# Altium footprint library SX1276_e268v01a.PcbLib: 66 footprints (part 2 of 5)
Each footprint in its own frame and in the unit in brackets; x right, y up, seen from the top. Pads: shape width x height; smd on the part's side, far side on the other; paste and mask are expansions set on the pad; w line width, h text height; cw(c..) or ccw(c..) is an arc to the next point about the centre after c.
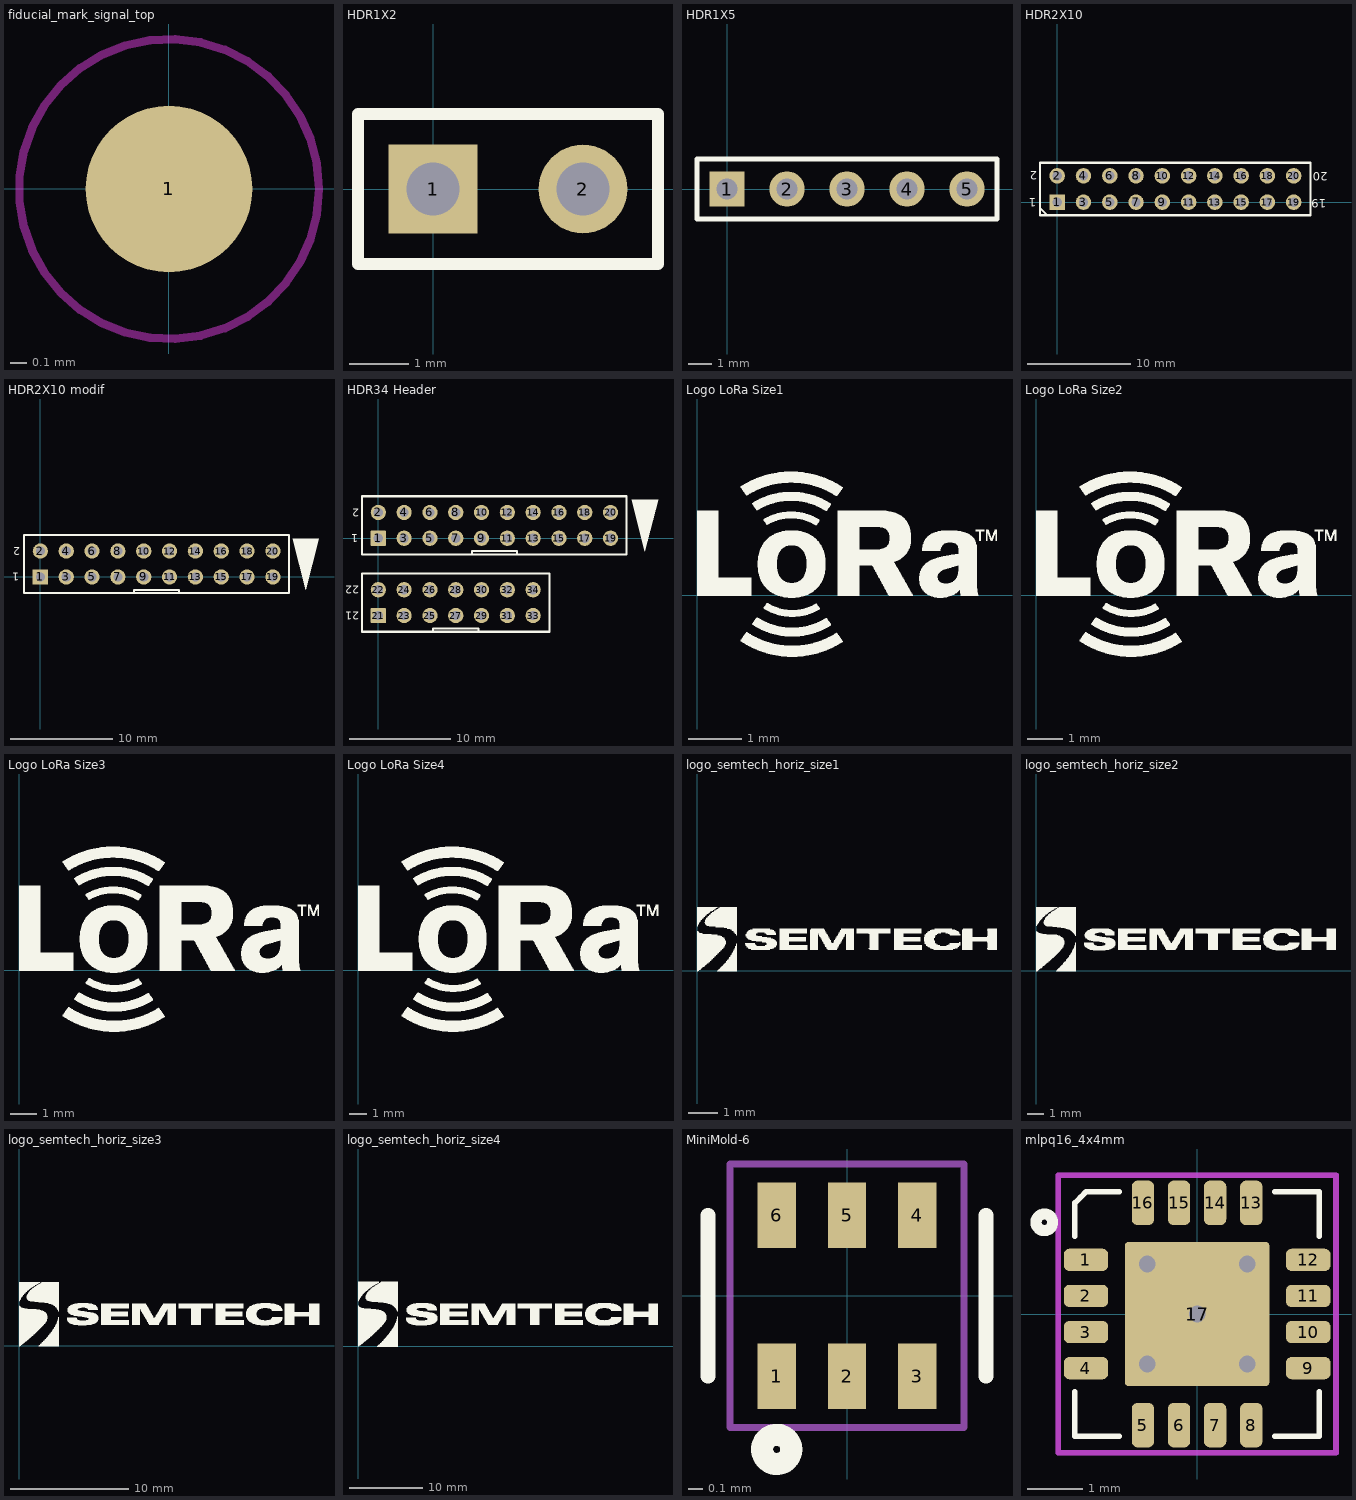
[diagram p1: the footprints below, top view; thin cyan lines are the x and y axes]

## fiducial_mark_signal_top [mm] "Fiducial mark for automatic assembly"
height 1
pads (1):
  round 1 smd paste-2 mask+0.5: 1(0,0)
Top Layer keep-out:
  circle w0.05: c0,0 r0.9

## HDR1X2 [mm] "Connector; Header; 2 Position"
pads (2):
  rect 1.5x1.5 hole 0.9: 1(0,0)
  round 1.5 hole 0.9: 2(2.54,0)
Top Overlay:
  lines w0.2: -1.27,-1.27 3.81,-1.27 3.81,1.27 -1.27,1.27 -1.27,-1.27

## HDR1X5 [mm] "Connector; Header; 5 Position"
pads (5):
  rect 1.5x1.5 hole 0.9: 1(0,0)
  round 1.5 hole 0.9: 2(2.54,0) 3(5.08,0) 4(7.62,0) 5(10.16,0)
Top Overlay:
  lines w0.2: -1.27,-1.27 11.43,-1.27 11.43,1.27 -1.27,1.27 -1.27,-1.27

## HDR2X10 [mm] "Connector; Header; 10x2 Position"
pads (20):
  rect 1.5x1.5 hole 0.9 paste+0 mask+0.1: 1(0,0)
  round 1.5 hole 0.9 paste+0 mask+0.1: 2(0,2.54) 3(2.54,0) 4(2.54,2.54) 5(5.08,0) 6(5.08,2.54) 7(7.62,0) 8(7.62,2.54) 9(10.16,0) 10(10.16,2.54) 11(12.7,0) 12(12.7,2.54) 13(15.24,0) 14(15.24,2.54) 15(17.78,0) 16(17.78,2.54) 17(20.32,0) 18(20.32,2.54) 19(22.86,0) 20(22.86,2.54)
Top Overlay:
  lines w0.2: -1.65,-0.6 -1.015,-1.235 ; -1.65,-1.27 0.635,-1.27 24.5,-1.27 24.5,3.81 0.635,3.81 -1.65,3.81 -1.65,-1.27
  text "20" at 26.15,2.9 h0.8
  text "19" at 26,0.3 h0.8
  text "1" at -2.05,0.4 h0.8
  text "2" at -1.95,3 h0.8

## HDR2X10 modif [mm] "Connector; Header; 10x2 Position - modified"
pads (20):
  rect 1.5x1.5 hole 0.9: 1(0,0)
  round 1.5 hole 0.9: 2(0,2.54) 3(2.54,0) 4(2.54,2.54) 5(5.08,0) 6(5.08,2.54) 7(7.62,0) 8(7.62,2.54) 9(10.16,0) 10(10.16,2.54) 11(12.7,0) 12(12.7,2.54) 13(15.24,0) 14(15.24,2.54) 15(17.78,0) 16(17.78,2.54) 17(20.32,0) 18(20.32,2.54) 19(22.86,0) 20(22.86,2.54)
Top Overlay:
  region: 26.107,-1.275 27.394,3.775 24.82,3.775
  lines w0.2: 9.207,-1.587 9.207,-1.27 13.335,-1.27 13.652,-1.27 13.652,-1.587 ; -1.587,-1.587 24.447,-1.587 24.447,4.127 -1.587,4.127 -1.587,-1.587
  text "2" at -2,2.9 h0.8
  text "1" at -2.1,0.4 h0.8

## HDR34 Header [mm] "Connector; Header; 34 Position - SM12xx Header"
pads (34):
  rrect10% 1.5x1.5 hole 0.9 mask+0.05: 1(0,0) 21(0,-7.62)
  round 1.5 hole 0.9 mask+0.05: 2(0,2.54) 3(2.54,0) 4(2.54,2.54) 5(5.08,0) 6(5.08,2.54) 7(7.62,0) 8(7.62,2.54) 9(10.16,0) 10(10.16,2.54) 11(12.7,0) 12(12.7,2.54) 13(15.24,0) 14(15.24,2.54) 15(17.78,0) 16(17.78,2.54) 17(20.32,0) 18(20.32,2.54) 19(22.86,0) 20(22.86,2.54) 22(0,-5.08) 23(2.54,-7.62) 24(2.54,-5.08) 25(5.08,-7.62) 26(5.08,-5.08) 27(7.62,-7.62) 28(7.62,-5.08) 29(10.16,-7.62) 30(10.16,-5.08) 31(12.7,-7.62) 32(12.7,-5.08) 33(15.24,-7.62) 34(15.24,-5.08)
Top Overlay:
  region: 26.243,-1.275 27.53,3.775 24.956,3.775
  lines w0.2: 5.397,-9.207 5.397,-8.89 9.525,-8.89 9.842,-8.89 9.842,-9.207 ; 9.207,-1.587 9.207,-1.27 13.335,-1.27 13.652,-1.27 13.652,-1.587 ; -1.587,-9.207 -1.587,-3.492 16.828,-3.492 16.828,-9.207 -1.587,-9.207 ; -1.587,-1.587 24.447,-1.587 24.447,4.127 -1.587,4.127 -1.587,-1.587
  text "2" at -1.9,2.9 h0.8
  text "1" at -2,0.4 h0.8
  text "21" at -1.9,-7.25 h0.8
  text "22" at -1.9,-4.7 h0.8

## Logo LoRa Size1 [mm] "Logo LoRa Size1 - Top Overlay"
Top Overlay:
  drawing of 2375 lines, arcs and shapes, not listed

## Logo LoRa Size2 [mm] "Logo LoRa Size2 - Top Overlay"
Top Overlay:
  drawing of 2374 lines, arcs and shapes, not listed

## Logo LoRa Size3 [mm] "Logo LoRa Size3 - Top Overlay"
Top Overlay:
  drawing of 2375 lines, arcs and shapes, not listed

## Logo LoRa Size4 [mm] "Logo LoRa Size4 - Top Overlay"
Top Overlay:
  drawing of 2375 lines, arcs and shapes, not listed

## logo_semtech_horiz_size1 [mm] "Logo semtech horizontal - size1 - S"
Top Overlay:
  drawing of 453 lines, arcs and shapes, not listed

## logo_semtech_horiz_size2 [mm] "Logo semtech horizontal - size2 - M"
Top Overlay:
  drawing of 790 lines, arcs and shapes, not listed

## logo_semtech_horiz_size3 [mm] "Logo semtech horizontal - size3 - L"
Top Overlay:
  drawing of 1137 lines, arcs and shapes, not listed

## logo_semtech_horiz_size4 [mm] "Logo semtech horizontal - size4 - XL"
Top Overlay:
  drawing of 1852 lines, arcs and shapes, not listed

## MiniMold-6 [mm] "MiniMold-6 Package 1.5x1.1mm"
height 0.55
pads (6):
  rect 0.26x0.45 smd mask+0.05: 1(-0.48,-0.55) 2(0,-0.55) 3(0.48,-0.55) 4(0.48,0.55) 5(0,0.55) 6(-0.48,0.55)
Top Overlay:
  circle w0.15: c-0.48,-1.05 r0.1
  lines w0.1: -0.95,-0.55 -0.95,0.55 ; 0.95,-0.55 0.95,0.55
Mechanical 15:
  lines w0.05: -0.8,-0.9 0.8,-0.9 0.8,0.9 -0.8,0.9 -0.8,-0.9
3D body: height 1, standoff 0, extent -0.75,-0.55 0.75,0.55

## mlpq16_4x4mm [mm] "16 Leads, Body 4.0x4.0mm, Pitch 0.65mm, MLPQ16 - modifs pads size"
height 1
pads (17):
  rrect50% 0.8x0.4 smd mask+0.05: 1(-2,0.975) 2(-2,0.325) 3(-2,-0.325) 4(-2,-0.975) 9(2,-0.975) 10(2,-0.325) 11(2,0.325)
  rrect50% 0.4x0.8 smd mask+0.05: 5(-0.975,-2) 6(-0.325,-2) 7(0.325,-2) 8(0.975,-2) 13(0.975,2) 14(0.325,2) 15(-0.325,2) 16(-0.975,2)
  rrect50% 0.8x0.4 smd paste+0 mask+0.05: 12(2,0.975)
  rrect5% 2.6x2.6 smd paste-2.3 mask+0.05: 17(0,0)
via 0.9,0.9 diameter 0.5 hole 0.3
via -0.9,0.9 diameter 0.5 hole 0.3
via -0.9,-0.9 diameter 0.5 hole 0.3
via 0.9,-0.9 diameter 0.5 hole 0.3
via 0,0 diameter 0.5 hole 0.3
Top Overlay:
  circle w0.2: c-2.75,1.65 r0.15
  lines w0.1: -2.2,-1.4 -2.2,-2.2 -1.4,-2.2 ; -2.2,1.4 -2.2,2 -2.1,2.1 -2,2.2 -1.4,2.2 ; 1.4,-2.2 2.2,-2.2 2.2,-1.4 ; 1.4,2.2 2.2,2.2 2.2,1.4
Top Paste:
  region: -1.2,0.35 -0.45,0.35 -0.45,-0.35 -1.2,-0.35
  region: 0.35,-1.2 0.35,-0.45 -0.35,-0.45 -0.35,-1.2
  region: 1.2,0.35 0.45,0.35 0.45,-0.35 1.2,-0.35
  region: 0.35,0.45 0.35,1.2 -0.35,1.2 -0.35,0.45
Mechanical 15 keep-out:
  lines w0.1: -2.5,-2.5 -2.5,2.5 2.5,2.5 2.5,-2.5 -2.5,-2.5
3D body: height 1, standoff 0.05, extent -2,-2 2,2